# Altium footprint library Connector_Dsub.PcbLib: 120 footprints (part 3 of 8)
Each footprint in its own frame and in the unit in brackets; x right, y up, seen from the top. Pads: shape width x height; smd on the part's side, far side on the other; paste and mask are expansions set on the pad; w line width, h text height; cw(c..) or ccw(c..) is an arc to the next point about the centre after c.
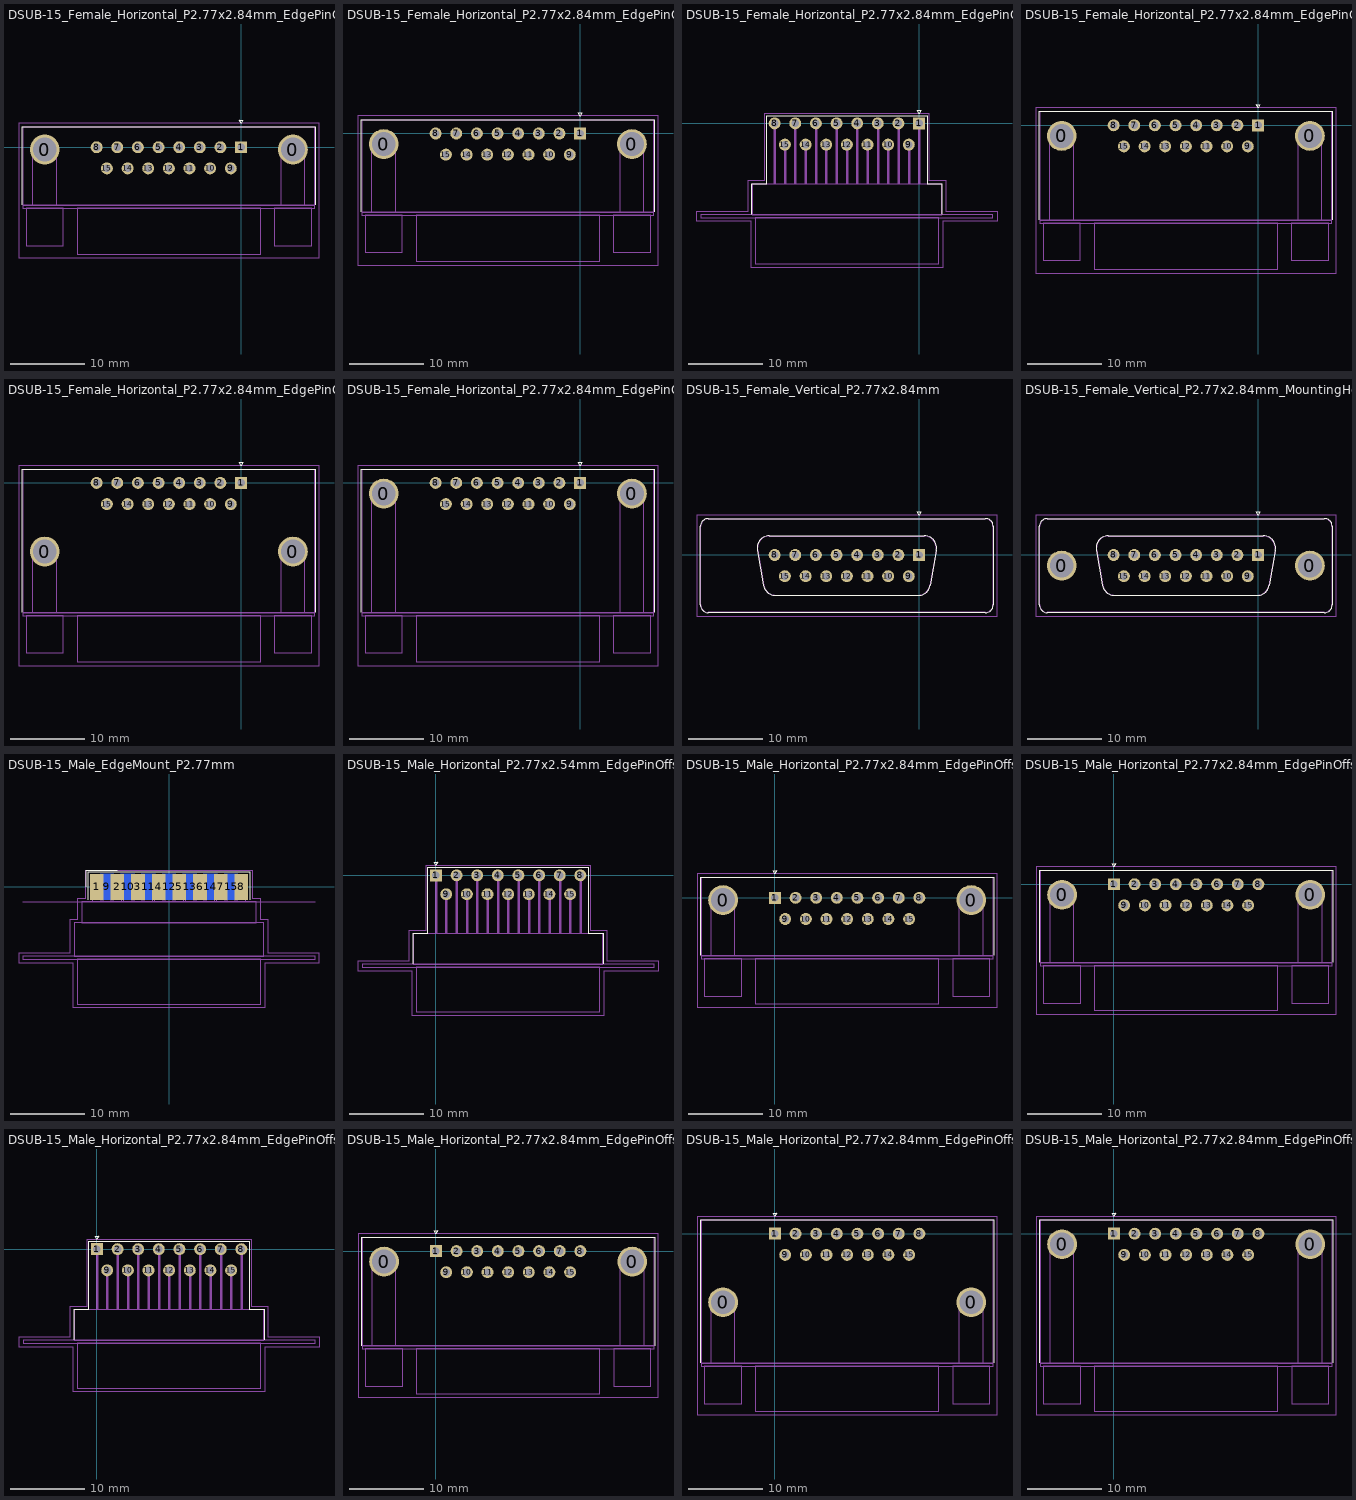
[diagram p2: the footprints below, top view; thin cyan lines are the x and y axes]

## DSUB-15_Female_Horizontal_P2.77x2.84mm_EdgePinOffset4.94mm_Housed_MountingHolesOffset7.48mm [mm]
pads (17):
  round 4 hole 3.2: 0(-26.345,-0.3) 0(6.955,-0.3)
  rect 1.6x1.6 hole 1: 1(0,0)
  round 1.6 hole 1: 2(-2.77,0) 3(-5.54,0) 4(-8.31,0) 5(-11.08,0) 6(-13.85,0) 7(-16.62,0) 8(-19.39,0) 9(-1.385,-2.84) 10(-4.155,-2.84) 11(-6.925,-2.84) 12(-9.695,-2.84) 13(-12.465,-2.84) 14(-15.235,-2.84) 15(-18.005,-2.84)
F.SilkS:
  lines w0.12: -29.355,-7.72 -29.355,2.76 9.965,2.76 9.965,-7.72 ; -0.25,3.654 0.25,3.654 0,3.221 -0.25,3.654
F.CrtYd:
  lines w0.05: -29.8,-14.85 -29.8,3.25 10.45,3.25 10.45,-14.85 -29.8,-14.85
F.Fab:
  lines w0.1: -27.945,-7.78 -27.945,-0.3 cw(c-26.345,-0.3) -24.745,-0.3 -24.745,-7.78 ; 5.355,-7.78 5.355,-0.3 cw(c6.955,-0.3) 8.555,-0.3 8.555,-7.78 ; -29.295,-7.78 -29.295,-8.18 9.905,-8.18 9.905,-7.78 ; -29.295,-7.78 9.905,-7.78 ; -29.295,-7.78 9.905,-7.78 ; -29.295,-7.78 -29.295,2.7 9.905,2.7 9.905,-7.78 ; -28.845,-13.18 -28.845,-8.18 -23.845,-8.18 -23.845,-13.18 -28.845,-13.18 ; -21.995,-14.35 2.605,-14.35 2.605,-8.18 -21.995,-8.18 -21.995,-14.35 ; 4.455,-13.18 4.455,-8.18 9.455,-8.18 9.455,-13.18 4.455,-13.18
  text "'.Designator'" at -13.742,-12.105 h1

## DSUB-15_Female_Horizontal_P2.77x2.84mm_EdgePinOffset7.70mm_Housed_MountingHolesOffset9.12mm [mm]
pads (17):
  round 4 hole 3.2: 0(-26.345,-1.42) 0(6.955,-1.42)
  rect 1.6x1.6 hole 1: 1(0,0)
  round 1.6 hole 1: 2(-2.77,0) 3(-5.54,0) 4(-8.31,0) 5(-11.08,0) 6(-13.85,0) 7(-16.62,0) 8(-19.39,0) 9(-1.385,-2.84) 10(-4.155,-2.84) 11(-6.925,-2.84) 12(-9.695,-2.84) 13(-12.465,-2.84) 14(-15.235,-2.84) 15(-18.005,-2.84)
F.SilkS:
  lines w0.12: -29.355,-10.48 -29.355,1.86 9.965,1.86 9.965,-10.48 ; -0.25,2.754 0.25,2.754 0,2.321 -0.25,2.754
F.CrtYd:
  lines w0.05: -29.8,-17.65 10.45,-17.65 10.45,2.35 -29.8,2.35 -29.8,-17.65
F.Fab:
  lines w0.1: -27.945,-10.54 -27.945,-1.42 cw(c-26.345,-1.42) -24.745,-1.42 -24.745,-10.54 ; 5.355,-10.54 5.355,-1.42 cw(c6.955,-1.42) 8.555,-1.42 8.555,-10.54 ; -29.295,-10.54 -29.295,1.8 9.905,1.8 9.905,-10.54 ; -29.295,-10.54 -29.295,-10.94 9.905,-10.94 9.905,-10.54 ; -29.295,-10.54 9.905,-10.54 ; -29.295,-10.54 9.905,-10.54 ; -28.845,-15.94 -28.845,-10.94 -23.845,-10.94 -23.845,-15.94 -28.845,-15.94 ; -21.995,-17.11 -21.995,-10.94 2.605,-10.94 2.605,-17.11 -21.995,-17.11 ; 4.455,-15.94 4.455,-10.94 9.455,-10.94 9.455,-15.94 4.455,-15.94
  text "'.Designator'" at -13.742,-14.865 h1

## DSUB-15_Female_Horizontal_P2.77x2.84mm_EdgePinOffset9.40mm [mm]
pads (15):
  rect 1.6x1.6 hole 1: 1(0,0)
  round 1.6 hole 1: 2(-2.77,0) 3(-5.54,0) 4(-8.31,0) 5(-11.08,0) 6(-13.85,0) 7(-16.62,0) 8(-19.39,0) 9(-1.385,-2.84) 10(-4.155,-2.84) 11(-6.925,-2.84) 12(-9.695,-2.84) 13(-12.465,-2.84) 14(-15.235,-2.84) 15(-18.005,-2.84)
F.SilkS:
  lines w0.12: -22.455,-12.18 -22.455,-8.08 -20.45,-8.08 -20.45,1.06 1.06,1.06 1.06,-8.08 3.065,-8.08 3.065,-12.18 ; -0.25,1.754 0,1.321 0.25,1.754 -0.25,1.754
F.CrtYd:
  lines w0.05: -29.8,-13.15 -22.5,-13.15 -22.5,-19.35 3.15,-19.35 3.15,-13.15 10.45,-13.15 10.45,-11.75 3.55,-11.75 3.55,-7.65 1.3,-7.65 1.3,1.35 -20.7,1.35 -20.7,-7.65 -22.9,-7.65 -22.9,-11.75 -29.8,-11.75 -29.8,-13.15
F.Fab:
  lines w0.1: -19.49,-8.14 -19.49,0 ; -19.39,-8.14 -19.39,0 ; -19.29,-8.14 -19.29,0 ; -18.105,-8.14 -18.105,-2.84 ; -18.005,-8.14 -18.005,-2.84 ; -17.905,-8.14 -17.905,-2.84 ; -16.72,-8.14 -16.72,0 ; -16.62,-8.14 -16.62,0 ; -16.52,-8.14 -16.52,0 ; -15.335,-8.14 -15.335,-2.84 ; -15.235,-8.14 -15.235,-2.84 ; -15.135,-8.14 -15.135,-2.84 ; -13.95,-8.14 -13.95,0 ; -13.85,-8.14 -13.85,0 ; -13.75,-8.14 -13.75,0 ; -12.565,-8.14 -12.565,-2.84 ; -12.465,-8.14 -12.465,-2.84 ; -12.365,-8.14 -12.365,-2.84 ; -11.18,-8.14 -11.18,0 ; -11.08,-8.14 -11.08,0 ; -10.98,-8.14 -10.98,0 ; -9.795,-8.14 -9.795,-2.84 ; -9.695,-8.14 -9.695,-2.84 ; -9.595,-8.14 -9.595,-2.84 ; -8.41,-8.14 -8.41,0 ; -8.31,-8.14 -8.31,0 ; -8.21,-8.14 -8.21,0 ; -7.025,-8.14 -7.025,-2.84 ; -6.925,-8.14 -6.925,-2.84 ; -6.825,-8.14 -6.825,-2.84 ; -5.64,-8.14 -5.64,0 ; -5.54,-8.14 -5.54,0 ; -5.44,-8.14 -5.44,0 ; -4.255,-8.14 -4.255,-2.84 ; -4.155,-8.14 -4.155,-2.84 ; -4.055,-8.14 -4.055,-2.84 ; -2.87,-8.14 -2.87,0 ; -2.77,-8.14 -2.77,0 ; -2.67,-8.14 -2.67,0 ; -1.485,-8.14 -1.485,-2.84 ; -1.385,-8.14 -1.385,-2.84 ; -1.285,-8.14 -1.285,-2.84 ; -0.1,-8.14 -0.1,0 ; 0,-8.14 0,0 ; 0.1,-8.14 0.1,0 ; -29.295,-12.64 -29.295,-12.24 9.905,-12.24 9.905,-12.64 -29.295,-12.64 ; -22.395,-12.24 -22.395,-8.14 3.005,-8.14 3.005,-12.24 -22.395,-12.24 ; -21.995,-18.81 2.605,-18.81 2.605,-12.64 -21.995,-12.64 -21.995,-18.81
  text "'.Designator'" at -13.742,-16.565 h1

## DSUB-15_Female_Horizontal_P2.77x2.84mm_EdgePinOffset9.90mm_Housed_MountingHolesOffset11.32mm [mm]
pads (17):
  round 4 hole 3.2: 0(-26.345,-1.42) 0(6.955,-1.42)
  rect 1.6x1.6 hole 1: 1(0,0)
  round 1.6 hole 1: 2(-2.77,0) 3(-5.54,0) 4(-8.31,0) 5(-11.08,0) 6(-13.85,0) 7(-16.62,0) 8(-19.39,0) 9(-1.385,-2.84) 10(-4.155,-2.84) 11(-6.925,-2.84) 12(-9.695,-2.84) 13(-12.465,-2.84) 14(-15.235,-2.84) 15(-18.005,-2.84)
F.SilkS:
  lines w0.12: -29.355,-12.68 -29.355,1.86 9.965,1.86 9.965,-12.68 ; -0.25,2.754 0,2.321 0.25,2.754 -0.25,2.754
F.CrtYd:
  lines w0.05: -29.8,-19.85 -29.8,2.35 10.45,2.35 10.45,-19.85 -29.8,-19.85
F.Fab:
  lines w0.1: -27.945,-12.74 -27.945,-1.42 cw(c-26.345,-1.42) -24.745,-1.42 -24.745,-12.74 ; 5.355,-12.74 5.355,-1.42 cw(c6.955,-1.42) 8.555,-1.42 8.555,-12.74 ; -29.295,-12.74 9.905,-12.74 ; -29.295,-12.74 9.905,-12.74 ; -29.295,-12.74 -29.295,1.8 9.905,1.8 9.905,-12.74 ; -29.295,-12.74 -29.295,-13.14 9.905,-13.14 9.905,-12.74 ; -28.845,-18.14 -28.845,-13.14 -23.845,-13.14 -23.845,-18.14 -28.845,-18.14 ; -21.995,-19.31 -21.995,-13.14 2.605,-13.14 2.605,-19.31 -21.995,-19.31 ; 4.455,-18.14 9.455,-18.14 9.455,-13.14 4.455,-13.14 4.455,-18.14
  text "'.Designator'" at -13.742,-17.065 h1

## DSUB-15_Female_Horizontal_P2.77x2.84mm_EdgePinOffset14.56mm_Housed_MountingHolesOffset8.20mm [mm]
pads (17):
  round 4 hole 3.2: 0(-26.345,-9.2) 0(6.955,-9.2)
  rect 1.6x1.6 hole 1: 1(0,0)
  round 1.6 hole 1: 2(-2.77,0) 3(-5.54,0) 4(-8.31,0) 5(-11.08,0) 6(-13.85,0) 7(-16.62,0) 8(-19.39,0) 9(-1.385,-2.84) 10(-4.155,-2.84) 11(-6.925,-2.84) 12(-9.695,-2.84) 13(-12.465,-2.84) 14(-15.235,-2.84) 15(-18.005,-2.84)
F.SilkS:
  lines w0.12: -29.355,-17.34 -29.355,1.86 9.965,1.86 9.965,-17.34 ; -0.25,2.754 0,2.321 0.25,2.754 -0.25,2.754
F.CrtYd:
  lines w0.05: -29.8,-24.5 10.45,-24.5 10.45,2.3 -29.8,2.3 -29.8,-24.5
F.Fab:
  lines w0.1: -27.945,-17.4 -27.945,-9.2 cw(c-26.345,-9.2) -24.745,-9.2 -24.745,-17.4 ; 5.355,-17.4 5.355,-9.2 cw(c6.955,-9.2) 8.555,-9.2 8.555,-17.4 ; -29.295,-17.4 9.905,-17.4 ; -29.295,-17.4 9.905,-17.4 ; -29.295,-17.4 -29.295,-17.8 9.905,-17.8 9.905,-17.4 ; -29.295,-17.4 -29.295,1.8 9.905,1.8 9.905,-17.4 ; -28.845,-22.8 -23.845,-22.8 -23.845,-17.8 -28.845,-17.8 -28.845,-22.8 ; -21.995,-23.97 -21.995,-17.8 2.605,-17.8 2.605,-23.97 -21.995,-23.97 ; 4.455,-22.8 9.455,-22.8 9.455,-17.8 4.455,-17.8 4.455,-22.8
  text "'.Designator'" at -13.742,-21.725 h1

## DSUB-15_Female_Horizontal_P2.77x2.84mm_EdgePinOffset14.56mm_Housed_MountingHolesOffset15.98mm [mm]
pads (17):
  round 4 hole 3.2: 0(-26.345,-1.42) 0(6.955,-1.42)
  rect 1.6x1.6 hole 1: 1(0,0)
  round 1.6 hole 1: 2(-2.77,0) 3(-5.54,0) 4(-8.31,0) 5(-11.08,0) 6(-13.85,0) 7(-16.62,0) 8(-19.39,0) 9(-1.385,-2.84) 10(-4.155,-2.84) 11(-6.925,-2.84) 12(-9.695,-2.84) 13(-12.465,-2.84) 14(-15.235,-2.84) 15(-18.005,-2.84)
F.SilkS:
  lines w0.12: -29.355,-17.34 -29.355,1.86 9.965,1.86 9.965,-17.34 ; -0.25,2.754 0,2.321 0.25,2.754 -0.25,2.754
F.CrtYd:
  lines w0.05: -29.8,-24.5 -29.8,2.3 10.45,2.3 10.45,-24.5 -29.8,-24.5
F.Fab:
  lines w0.1: -27.945,-17.4 -27.945,-1.42 cw(c-26.345,-1.42) -24.745,-1.42 -24.745,-17.4 ; 5.355,-17.4 5.355,-1.42 cw(c6.955,-1.42) 8.555,-1.42 8.555,-17.4 ; -29.295,-17.4 9.905,-17.4 ; -29.295,-17.4 -29.295,1.8 9.905,1.8 9.905,-17.4 ; -29.295,-17.4 9.905,-17.4 ; -29.295,-17.4 -29.295,-17.8 9.905,-17.8 9.905,-17.4 ; -28.845,-22.8 -23.845,-22.8 -23.845,-17.8 -28.845,-17.8 -28.845,-22.8 ; -21.995,-23.97 -21.995,-17.8 2.605,-17.8 2.605,-23.97 -21.995,-23.97 ; 4.455,-22.8 9.455,-22.8 9.455,-17.8 4.455,-17.8 4.455,-22.8
  text "'.Designator'" at -13.742,-21.725 h1

## DSUB-15_Female_Vertical_P2.77x2.84mm [mm]
pads (15):
  rect 1.6x1.6 hole 1: 1(0,0)
  round 1.6 hole 1: 2(-2.77,0) 3(-5.54,0) 4(-8.31,0) 5(-11.08,0) 6(-13.85,0) 7(-16.62,0) 8(-19.39,0) 9(-1.385,-2.84) 10(-4.155,-2.84) 11(-6.925,-2.84) 12(-9.695,-2.84) 13(-12.465,-2.84) 14(-15.235,-2.84) 15(-18.005,-2.84)
F.SilkS:
  lines w0.12: -29.355,-6.67 -29.355,3.83 cw(c-28.295,3.83) -28.295,4.89 8.905,4.89 cw(c8.905,3.83) 9.965,3.83 9.965,-6.67 cw(c8.905,-6.67) 8.905,-7.73 -28.295,-7.73 cw(c-28.295,-6.67) -29.355,-6.67 ; -21.711,0.642 -20.883,-4.058 ccw(c-19.248,-3.77) -19.248,-5.43 -0.142,-5.43 ccw(c-0.142,-3.77) 1.493,-4.058 2.321,0.642 ccw(c0.687,0.93) 0.687,2.59 -20.077,2.59 ccw(c-20.077,0.93) -21.711,0.642 ; -0.25,5.784 0.25,5.784 0,5.351 -0.25,5.784
F.CrtYd:
  lines w0.05: -29.8,-8.2 -29.8,5.35 10.45,5.35 10.45,-8.2 -29.8,-8.2
F.Fab:
  lines w0.1: -29.295,-6.67 -29.295,3.83 cw(c-28.295,3.83) -28.295,4.83 8.905,4.83 cw(c8.905,3.83) 9.905,3.83 9.905,-6.67 cw(c8.905,-6.67) 8.905,-7.67 -28.295,-7.67 cw(c-28.295,-6.67) -29.295,-6.67 ; -21.664,0.652 -20.835,-4.048 ccw(c-19.259,-3.77) -19.259,-5.37 -0.131,-5.37 ccw(c-0.131,-3.77) 1.445,-4.048 2.274,0.652 ccw(c0.698,0.93) 0.698,2.53 -20.088,2.53 ccw(c-20.088,0.93) -21.664,0.652
  text "'.Designator'" at -13.742,-2.26 h1

## DSUB-15_Female_Vertical_P2.77x2.84mm_MountingHoles [mm]
pads (17):
  round 4 hole 3.2: 0(-26.345,-1.42) 0(6.955,-1.42)
  rect 1.6x1.6 hole 1: 1(0,0)
  round 1.6 hole 1: 2(-2.77,0) 3(-5.54,0) 4(-8.31,0) 5(-11.08,0) 6(-13.85,0) 7(-16.62,0) 8(-19.39,0) 9(-1.385,-2.84) 10(-4.155,-2.84) 11(-6.925,-2.84) 12(-9.695,-2.84) 13(-12.465,-2.84) 14(-15.235,-2.84) 15(-18.005,-2.84)
F.SilkS:
  lines w0.12: -29.355,-6.67 -29.355,3.83 cw(c-28.295,3.83) -28.295,4.89 8.905,4.89 cw(c8.905,3.83) 9.965,3.83 9.965,-6.67 cw(c8.905,-6.67) 8.905,-7.73 -28.295,-7.73 cw(c-28.295,-6.67) -29.355,-6.67 ; -21.711,0.642 -20.883,-4.058 ccw(c-19.248,-3.77) -19.248,-5.43 -0.142,-5.43 ccw(c-0.142,-3.77) 1.493,-4.058 2.321,0.642 ccw(c0.687,0.93) 0.687,2.59 -20.077,2.59 ccw(c-20.077,0.93) -21.711,0.642 ; -0.25,5.784 0,5.351 0.25,5.784 -0.25,5.784
F.CrtYd:
  lines w0.05: -29.8,-8.2 -29.8,5.35 10.45,5.35 10.45,-8.2 -29.8,-8.2
F.Fab:
  lines w0.1: -29.295,-6.67 -29.295,3.83 cw(c-28.295,3.83) -28.295,4.83 8.905,4.83 cw(c8.905,3.83) 9.905,3.83 9.905,-6.67 cw(c8.905,-6.67) 8.905,-7.67 -28.295,-7.67 cw(c-28.295,-6.67) -29.295,-6.67 ; -21.664,0.652 -20.835,-4.048 ccw(c-19.259,-3.77) -19.259,-5.37 -0.131,-5.37 ccw(c-0.131,-3.77) 1.445,-4.048 2.274,0.652 ccw(c0.698,0.93) 0.698,2.53 -20.088,2.53 ccw(c-20.088,0.93) -21.664,0.652
  text "'.Designator'" at -13.742,-2.26 h1

## DSUB-15_Male_EdgeMount_P2.77mm [mm]
pads (15):
  rect 1.847x3.48 smd: 1(-9.695,0) 2(-6.925,0) 3(-4.155,0) 4(-1.385,0) 5(1.385,0) 6(4.155,0) 7(6.925,0) 8(9.695,0)
  rect 1.847x3.48 smd far side: 9(-8.31,0) 10(-5.54,0) 11(-2.77,0) 12(0,0) 13(2.77,0) 14(5.54,0) 15(8.31,0)
F.SilkS:
  lines w0.12: -11.118,0 -11.118,2.24 -6.925,2.24 ; -10.878,-1.74 -10.878,2 10.878,2 10.878,-1.74
Dwgs.User:
  lines w0.05: -19.6,-1.99 19.6,-1.99
  text "PCB edge" at -16.323,-1.732 h0.5
F.CrtYd:
  lines w0.05: -20.1,-10.2 -20.1,-8.8 -13.2,-8.8 -13.2,-4.3 -12.2,-4.3 -12.2,-1.5 -11.15,-1.5 -11.15,2.25 11.15,2.25 11.15,-1.5 12.2,-1.5 12.2,-4.3 13.2,-4.3 13.2,-8.8 20.1,-8.8 20.1,-10.2 12.8,-10.2 12.8,-16.2 -12.8,-16.2 -12.8,-10.2 -20.1,-10.2
B.Fab:
  lines w0.1: -8.91,-1.99 -7.71,-1.99 -7.71,0.91 -8.91,0.91 -8.91,-1.99 ; -6.14,-1.99 -4.94,-1.99 -4.94,0.91 -6.14,0.91 -6.14,-1.99 ; -3.37,-1.99 -2.17,-1.99 -2.17,0.91 -3.37,0.91 -3.37,-1.99 ; -0.6,-1.99 0.6,-1.99 0.6,0.91 -0.6,0.91 -0.6,-1.99 ; 2.17,-1.99 3.37,-1.99 3.37,0.91 2.17,0.91 2.17,-1.99 ; 4.94,-1.99 6.14,-1.99 6.14,0.91 4.94,0.91 4.94,-1.99 ; 7.71,-1.99 8.91,-1.99 8.91,0.91 7.71,0.91 7.71,-1.99
F.Fab:
  lines w0.1: -19.6,-9.69 19.6,-9.69 19.6,-9.29 -19.6,-9.29 -19.6,-9.69 ; -12.7,-9.29 12.7,-9.29 12.7,-4.79 -12.7,-4.79 -12.7,-9.29 ; -12.3,-15.69 12.3,-15.69 12.3,-9.69 -12.3,-9.69 -12.3,-15.69 ; -11.7,-4.79 11.7,-4.79 11.7,-1.99 -11.7,-1.99 -11.7,-4.79 ; -10.295,-1.99 -9.095,-1.99 -9.095,0.91 -10.295,0.91 -10.295,-1.99 ; -7.525,-1.99 -6.325,-1.99 -6.325,0.91 -7.525,0.91 -7.525,-1.99 ; -4.755,-1.99 -3.555,-1.99 -3.555,0.91 -4.755,0.91 -4.755,-1.99 ; -1.985,-1.99 -0.785,-1.99 -0.785,0.91 -1.985,0.91 -1.985,-1.99 ; 0.785,-1.99 0.785,0.91 1.985,0.91 1.985,-1.99 0.785,-1.99 ; 3.555,-1.99 3.555,0.91 4.755,0.91 4.755,-1.99 3.555,-1.99 ; 6.325,-1.99 6.325,0.91 7.525,0.91 7.525,-1.99 6.325,-1.99 ; 9.095,-1.99 9.095,0.91 10.295,0.91 10.295,-1.99 9.095,-1.99
  text "'.Designator'" at -4.047,-4.23 h1

## DSUB-15_Male_Horizontal_P2.77x2.54mm_EdgePinOffset9.40mm [mm]
pads (15):
  rect 1.6x1.6 hole 1: 1(0,0)
  round 1.6 hole 1: 2(2.77,0) 3(5.54,0) 4(8.31,0) 5(11.08,0) 6(13.85,0) 7(16.62,0) 8(19.39,0) 9(1.385,-2.54) 10(4.155,-2.54) 11(6.925,-2.54) 12(9.695,-2.54) 13(12.465,-2.54) 14(15.235,-2.54) 15(18.005,-2.54)
F.SilkS:
  lines w0.12: -3.065,-11.88 -3.065,-7.78 -1.06,-7.78 -1.06,1.06 20.45,1.06 20.45,-7.78 22.455,-7.78 22.455,-11.88 ; -0.25,1.754 0,1.321 0.25,1.754 -0.25,1.754
F.CrtYd:
  lines w0.05: -10.45,-12.85 -3.15,-12.85 -3.15,-18.85 22.5,-18.85 22.5,-12.85 29.8,-12.85 29.8,-11.45 22.9,-11.45 22.9,-7.35 20.7,-7.35 20.7,1.35 -1.3,1.35 -1.3,-7.35 -3.55,-7.35 -3.55,-11.45 -10.45,-11.45 -10.45,-12.85
F.Fab:
  lines w0.1: -0.1,-7.84 -0.1,0 ; 0,-7.84 0,0 ; 0.1,-7.84 0.1,0 ; 1.285,-7.84 1.285,-2.54 ; 1.385,-7.84 1.385,-2.54 ; 1.485,-7.84 1.485,-2.54 ; 2.67,-7.84 2.67,0 ; 2.77,-7.84 2.77,0 ; 2.87,-7.84 2.87,0 ; 4.055,-7.84 4.055,-2.54 ; 4.155,-7.84 4.155,-2.54 ; 4.255,-7.84 4.255,-2.54 ; 5.44,-7.84 5.44,0 ; 5.54,-7.84 5.54,0 ; 5.64,-7.84 5.64,0 ; 6.825,-7.84 6.825,-2.54 ; 6.925,-7.84 6.925,-2.54 ; 7.025,-7.84 7.025,-2.54 ; 8.21,-7.84 8.21,0 ; 8.31,-7.84 8.31,0 ; 8.41,-7.84 8.41,0 ; 9.595,-7.84 9.595,-2.54 ; 9.695,-7.84 9.695,-2.54 ; 9.795,-7.84 9.795,-2.54 ; 10.98,-7.84 10.98,0 ; 11.08,-7.84 11.08,0 ; 11.18,-7.84 11.18,0 ; 12.365,-7.84 12.365,-2.54 ; 12.465,-7.84 12.465,-2.54 ; 12.565,-7.84 12.565,-2.54 ; 13.75,-7.84 13.75,0 ; 13.85,-7.84 13.85,0 ; 13.95,-7.84 13.95,0 ; 15.135,-7.84 15.135,-2.54 ; 15.235,-7.84 15.235,-2.54 ; 15.335,-7.84 15.335,-2.54 ; 16.52,-7.84 16.52,0 ; 16.62,-7.84 16.62,0 ; 16.72,-7.84 16.72,0 ; 17.905,-7.84 17.905,-2.54 ; 18.005,-7.84 18.005,-2.54 ; 18.105,-7.84 18.105,-2.54 ; 19.29,-7.84 19.29,0 ; 19.39,-7.84 19.39,0 ; 19.49,-7.84 19.49,0 ; -9.905,-12.34 29.295,-12.34 29.295,-11.94 -9.905,-11.94 -9.905,-12.34 ; -3.005,-11.94 -3.005,-7.84 22.395,-7.84 22.395,-11.94 -3.005,-11.94 ; -2.605,-18.34 21.995,-18.34 21.995,-12.34 -2.605,-12.34 -2.605,-18.34
  text "'.Designator'" at 5.648,-16.18 h1

## DSUB-15_Male_Horizontal_P2.77x2.84mm_EdgePinOffset4.94mm_Housed_MountingHolesOffset7.48mm [mm]
pads (17):
  round 4 hole 3.2: 0(-6.955,-0.3) 0(26.345,-0.3)
  rect 1.6x1.6 hole 1: 1(0,0)
  round 1.6 hole 1: 2(2.77,0) 3(5.54,0) 4(8.31,0) 5(11.08,0) 6(13.85,0) 7(16.62,0) 8(19.39,0) 9(1.385,-2.84) 10(4.155,-2.84) 11(6.925,-2.84) 12(9.695,-2.84) 13(12.465,-2.84) 14(15.235,-2.84) 15(18.005,-2.84)
F.SilkS:
  lines w0.12: -9.965,-7.72 -9.965,2.76 29.355,2.76 29.355,-7.72 ; -0.25,3.654 0,3.221 0.25,3.654 -0.25,3.654
F.CrtYd:
  lines w0.05: -10.45,-14.7 -10.45,3.25 29.8,3.25 29.8,-14.7 -10.45,-14.7
F.Fab:
  lines w0.1: -8.555,-7.78 -8.555,-0.3 cw(c-6.955,-0.3) -5.355,-0.3 -5.355,-7.78 ; 24.745,-7.78 24.745,-0.3 cw(c26.345,-0.3) 27.945,-0.3 27.945,-7.78 ; -9.905,-7.78 29.295,-7.78 ; -9.905,-7.78 -9.905,-8.18 29.295,-8.18 29.295,-7.78 ; -9.905,-7.78 29.295,-7.78 ; -9.905,-7.78 -9.905,2.7 29.295,2.7 29.295,-7.78 ; -9.455,-13.18 -4.455,-13.18 -4.455,-8.18 -9.455,-8.18 -9.455,-13.18 ; -2.605,-14.18 -2.605,-8.18 21.995,-8.18 21.995,-14.18 -2.605,-14.18 ; 23.845,-13.18 23.845,-8.18 28.845,-8.18 28.845,-13.18 23.845,-13.18
  text "'.Designator'" at 5.648,-12.02 h1

## DSUB-15_Male_Horizontal_P2.77x2.84mm_EdgePinOffset7.70mm_Housed_MountingHolesOffset9.12mm [mm]
pads (17):
  round 4 hole 3.2: 0(-6.955,-1.42) 0(26.345,-1.42)
  rect 1.6x1.6 hole 1: 1(0,0)
  round 1.6 hole 1: 2(2.77,0) 3(5.54,0) 4(8.31,0) 5(11.08,0) 6(13.85,0) 7(16.62,0) 8(19.39,0) 9(1.385,-2.84) 10(4.155,-2.84) 11(6.925,-2.84) 12(9.695,-2.84) 13(12.465,-2.84) 14(15.235,-2.84) 15(18.005,-2.84)
F.SilkS:
  lines w0.12: -9.965,-10.48 -9.965,1.86 29.355,1.86 29.355,-10.48 ; -0.25,2.754 0.25,2.754 0,2.321 -0.25,2.754
F.CrtYd:
  lines w0.05: -10.45,-17.45 29.8,-17.45 29.8,2.35 -10.45,2.35 -10.45,-17.45
F.Fab:
  lines w0.1: -8.555,-10.54 -8.555,-1.42 cw(c-6.955,-1.42) -5.355,-1.42 -5.355,-10.54 ; 24.745,-10.54 24.745,-1.42 cw(c26.345,-1.42) 27.945,-1.42 27.945,-10.54 ; -9.905,-10.54 -9.905,-10.94 29.295,-10.94 29.295,-10.54 ; -9.905,-10.54 29.295,-10.54 ; -9.905,-10.54 -9.905,1.8 29.295,1.8 29.295,-10.54 ; -9.905,-10.54 29.295,-10.54 ; -9.455,-15.94 -4.455,-15.94 -4.455,-10.94 -9.455,-10.94 -9.455,-15.94 ; -2.605,-16.94 -2.605,-10.94 21.995,-10.94 21.995,-16.94 -2.605,-16.94 ; 23.845,-15.94 28.845,-15.94 28.845,-10.94 23.845,-10.94 23.845,-15.94
  text "'.Designator'" at 5.648,-14.78 h1

## DSUB-15_Male_Horizontal_P2.77x2.84mm_EdgePinOffset9.40mm [mm]
pads (15):
  rect 1.6x1.6 hole 1: 1(0,0)
  round 1.6 hole 1: 2(2.77,0) 3(5.54,0) 4(8.31,0) 5(11.08,0) 6(13.85,0) 7(16.62,0) 8(19.39,0) 9(1.385,-2.84) 10(4.155,-2.84) 11(6.925,-2.84) 12(9.695,-2.84) 13(12.465,-2.84) 14(15.235,-2.84) 15(18.005,-2.84)
F.SilkS:
  lines w0.12: -3.065,-12.18 -3.065,-8.08 -1.06,-8.08 -1.06,1.06 20.45,1.06 20.45,-8.08 22.455,-8.08 22.455,-12.18 ; -0.25,1.754 0.25,1.754 0,1.321 -0.25,1.754
F.CrtYd:
  lines w0.05: -10.45,-13.15 -3.15,-13.15 -3.15,-19.15 22.5,-19.15 22.5,-13.15 29.8,-13.15 29.8,-11.75 22.9,-11.75 22.9,-7.65 20.7,-7.65 20.7,1.35 -1.3,1.35 -1.3,-7.65 -3.55,-7.65 -3.55,-11.75 -10.45,-11.75 -10.45,-13.15
F.Fab:
  lines w0.1: -0.1,-8.14 -0.1,0 ; 0,-8.14 0,0 ; 0.1,-8.14 0.1,0 ; 1.285,-8.14 1.285,-2.84 ; 1.385,-8.14 1.385,-2.84 ; 1.485,-8.14 1.485,-2.84 ; 2.67,-8.14 2.67,0 ; 2.77,-8.14 2.77,0 ; 2.87,-8.14 2.87,0 ; 4.055,-8.14 4.055,-2.84 ; 4.155,-8.14 4.155,-2.84 ; 4.255,-8.14 4.255,-2.84 ; 5.44,-8.14 5.44,0 ; 5.54,-8.14 5.54,0 ; 5.64,-8.14 5.64,0 ; 6.825,-8.14 6.825,-2.84 ; 6.925,-8.14 6.925,-2.84 ; 7.025,-8.14 7.025,-2.84 ; 8.21,-8.14 8.21,0 ; 8.31,-8.14 8.31,0 ; 8.41,-8.14 8.41,0 ; 9.595,-8.14 9.595,-2.84 ; 9.695,-8.14 9.695,-2.84 ; 9.795,-8.14 9.795,-2.84 ; 10.98,-8.14 10.98,0 ; 11.08,-8.14 11.08,0 ; 11.18,-8.14 11.18,0 ; 12.365,-8.14 12.365,-2.84 ; 12.465,-8.14 12.465,-2.84 ; 12.565,-8.14 12.565,-2.84 ; 13.75,-8.14 13.75,0 ; 13.85,-8.14 13.85,0 ; 13.95,-8.14 13.95,0 ; 15.135,-8.14 15.135,-2.84 ; 15.235,-8.14 15.235,-2.84 ; 15.335,-8.14 15.335,-2.84 ; 16.52,-8.14 16.52,0 ; 16.62,-8.14 16.62,0 ; 16.72,-8.14 16.72,0 ; 17.905,-8.14 17.905,-2.84 ; 18.005,-8.14 18.005,-2.84 ; 18.105,-8.14 18.105,-2.84 ; 19.29,-8.14 19.29,0 ; 19.39,-8.14 19.39,0 ; 19.49,-8.14 19.49,0 ; -9.905,-12.64 29.295,-12.64 29.295,-12.24 -9.905,-12.24 -9.905,-12.64 ; -3.005,-12.24 22.395,-12.24 22.395,-8.14 -3.005,-8.14 -3.005,-12.24 ; -2.605,-18.64 -2.605,-12.64 21.995,-12.64 21.995,-18.64 -2.605,-18.64
  text "'.Designator'" at 5.648,-16.48 h1

## DSUB-15_Male_Horizontal_P2.77x2.84mm_EdgePinOffset9.90mm_Housed_MountingHolesOffset11.32mm [mm]
pads (17):
  round 4 hole 3.2: 0(-6.955,-1.42) 0(26.345,-1.42)
  rect 1.6x1.6 hole 1: 1(0,0)
  round 1.6 hole 1: 2(2.77,0) 3(5.54,0) 4(8.31,0) 5(11.08,0) 6(13.85,0) 7(16.62,0) 8(19.39,0) 9(1.385,-2.84) 10(4.155,-2.84) 11(6.925,-2.84) 12(9.695,-2.84) 13(12.465,-2.84) 14(15.235,-2.84) 15(18.005,-2.84)
F.SilkS:
  lines w0.12: -9.965,-12.68 -9.965,1.86 29.355,1.86 29.355,-12.68 ; -0.25,2.754 0,2.321 0.25,2.754 -0.25,2.754
F.CrtYd:
  lines w0.05: -10.45,-19.65 29.8,-19.65 29.8,2.35 -10.45,2.35 -10.45,-19.65
F.Fab:
  lines w0.1: -8.555,-12.74 -8.555,-1.42 cw(c-6.955,-1.42) -5.355,-1.42 -5.355,-12.74 ; 24.745,-12.74 24.745,-1.42 cw(c26.345,-1.42) 27.945,-1.42 27.945,-12.74 ; -9.905,-12.74 -9.905,-13.14 29.295,-13.14 29.295,-12.74 ; -9.905,-12.74 29.295,-12.74 ; -9.905,-12.74 29.295,-12.74 ; -9.905,-12.74 -9.905,1.8 29.295,1.8 29.295,-12.74 ; -9.455,-18.14 -9.455,-13.14 -4.455,-13.14 -4.455,-18.14 -9.455,-18.14 ; -2.605,-19.14 -2.605,-13.14 21.995,-13.14 21.995,-19.14 -2.605,-19.14 ; 23.845,-18.14 23.845,-13.14 28.845,-13.14 28.845,-18.14 23.845,-18.14
  text "'.Designator'" at 5.648,-16.98 h1

## DSUB-15_Male_Horizontal_P2.77x2.84mm_EdgePinOffset14.56mm_Housed_MountingHolesOffset8.20mm [mm]
pads (17):
  round 4 hole 3.2: 0(-6.955,-9.2) 0(26.345,-9.2)
  rect 1.6x1.6 hole 1: 1(0,0)
  round 1.6 hole 1: 2(2.77,0) 3(5.54,0) 4(8.31,0) 5(11.08,0) 6(13.85,0) 7(16.62,0) 8(19.39,0) 9(1.385,-2.84) 10(4.155,-2.84) 11(6.925,-2.84) 12(9.695,-2.84) 13(12.465,-2.84) 14(15.235,-2.84) 15(18.005,-2.84)
F.SilkS:
  lines w0.12: -9.965,-17.34 -9.965,1.86 29.355,1.86 29.355,-17.34 ; -0.25,2.754 0.25,2.754 0,2.321 -0.25,2.754
F.CrtYd:
  lines w0.05: -10.45,-24.3 29.8,-24.3 29.8,2.3 -10.45,2.3 -10.45,-24.3
F.Fab:
  lines w0.1: -8.555,-17.4 -8.555,-9.2 cw(c-6.955,-9.2) -5.355,-9.2 -5.355,-17.4 ; 24.745,-17.4 24.745,-9.2 cw(c26.345,-9.2) 27.945,-9.2 27.945,-17.4 ; -9.905,-17.4 29.295,-17.4 ; -9.905,-17.4 -9.905,-17.8 29.295,-17.8 29.295,-17.4 ; -9.905,-17.4 -9.905,1.8 29.295,1.8 29.295,-17.4 ; -9.905,-17.4 29.295,-17.4 ; -9.455,-22.8 -4.455,-22.8 -4.455,-17.8 -9.455,-17.8 -9.455,-22.8 ; -2.605,-23.8 21.995,-23.8 21.995,-17.8 -2.605,-17.8 -2.605,-23.8 ; 23.845,-22.8 23.845,-17.8 28.845,-17.8 28.845,-22.8 23.845,-22.8
  text "'.Designator'" at 5.648,-21.64 h1

## DSUB-15_Male_Horizontal_P2.77x2.84mm_EdgePinOffset14.56mm_Housed_MountingHolesOffset15.98mm [mm]
pads (17):
  round 4 hole 3.2: 0(-6.955,-1.42) 0(26.345,-1.42)
  rect 1.6x1.6 hole 1: 1(0,0)
  round 1.6 hole 1: 2(2.77,0) 3(5.54,0) 4(8.31,0) 5(11.08,0) 6(13.85,0) 7(16.62,0) 8(19.39,0) 9(1.385,-2.84) 10(4.155,-2.84) 11(6.925,-2.84) 12(9.695,-2.84) 13(12.465,-2.84) 14(15.235,-2.84) 15(18.005,-2.84)
F.SilkS:
  lines w0.12: -9.965,-17.34 -9.965,1.86 29.355,1.86 29.355,-17.34 ; -0.25,2.754 0.25,2.754 0,2.321 -0.25,2.754
F.CrtYd:
  lines w0.05: -10.45,-24.3 -10.45,2.3 29.8,2.3 29.8,-24.3 -10.45,-24.3
F.Fab:
  lines w0.1: -8.555,-17.4 -8.555,-1.42 cw(c-6.955,-1.42) -5.355,-1.42 -5.355,-17.4 ; 24.745,-17.4 24.745,-1.42 cw(c26.345,-1.42) 27.945,-1.42 27.945,-17.4 ; -9.905,-17.4 29.295,-17.4 ; -9.905,-17.4 29.295,-17.4 ; -9.905,-17.4 -9.905,1.8 29.295,1.8 29.295,-17.4 ; -9.905,-17.4 -9.905,-17.8 29.295,-17.8 29.295,-17.4 ; -9.455,-22.8 -4.455,-22.8 -4.455,-17.8 -9.455,-17.8 -9.455,-22.8 ; -2.605,-23.8 -2.605,-17.8 21.995,-17.8 21.995,-23.8 -2.605,-23.8 ; 23.845,-22.8 23.845,-17.8 28.845,-17.8 28.845,-22.8 23.845,-22.8
  text "'.Designator'" at 5.648,-21.64 h1